# Altium integrated library Analog Devices Data Converters Digital-to-Analog Converters.IntLib: 2231 symbols (part 75 of 181)
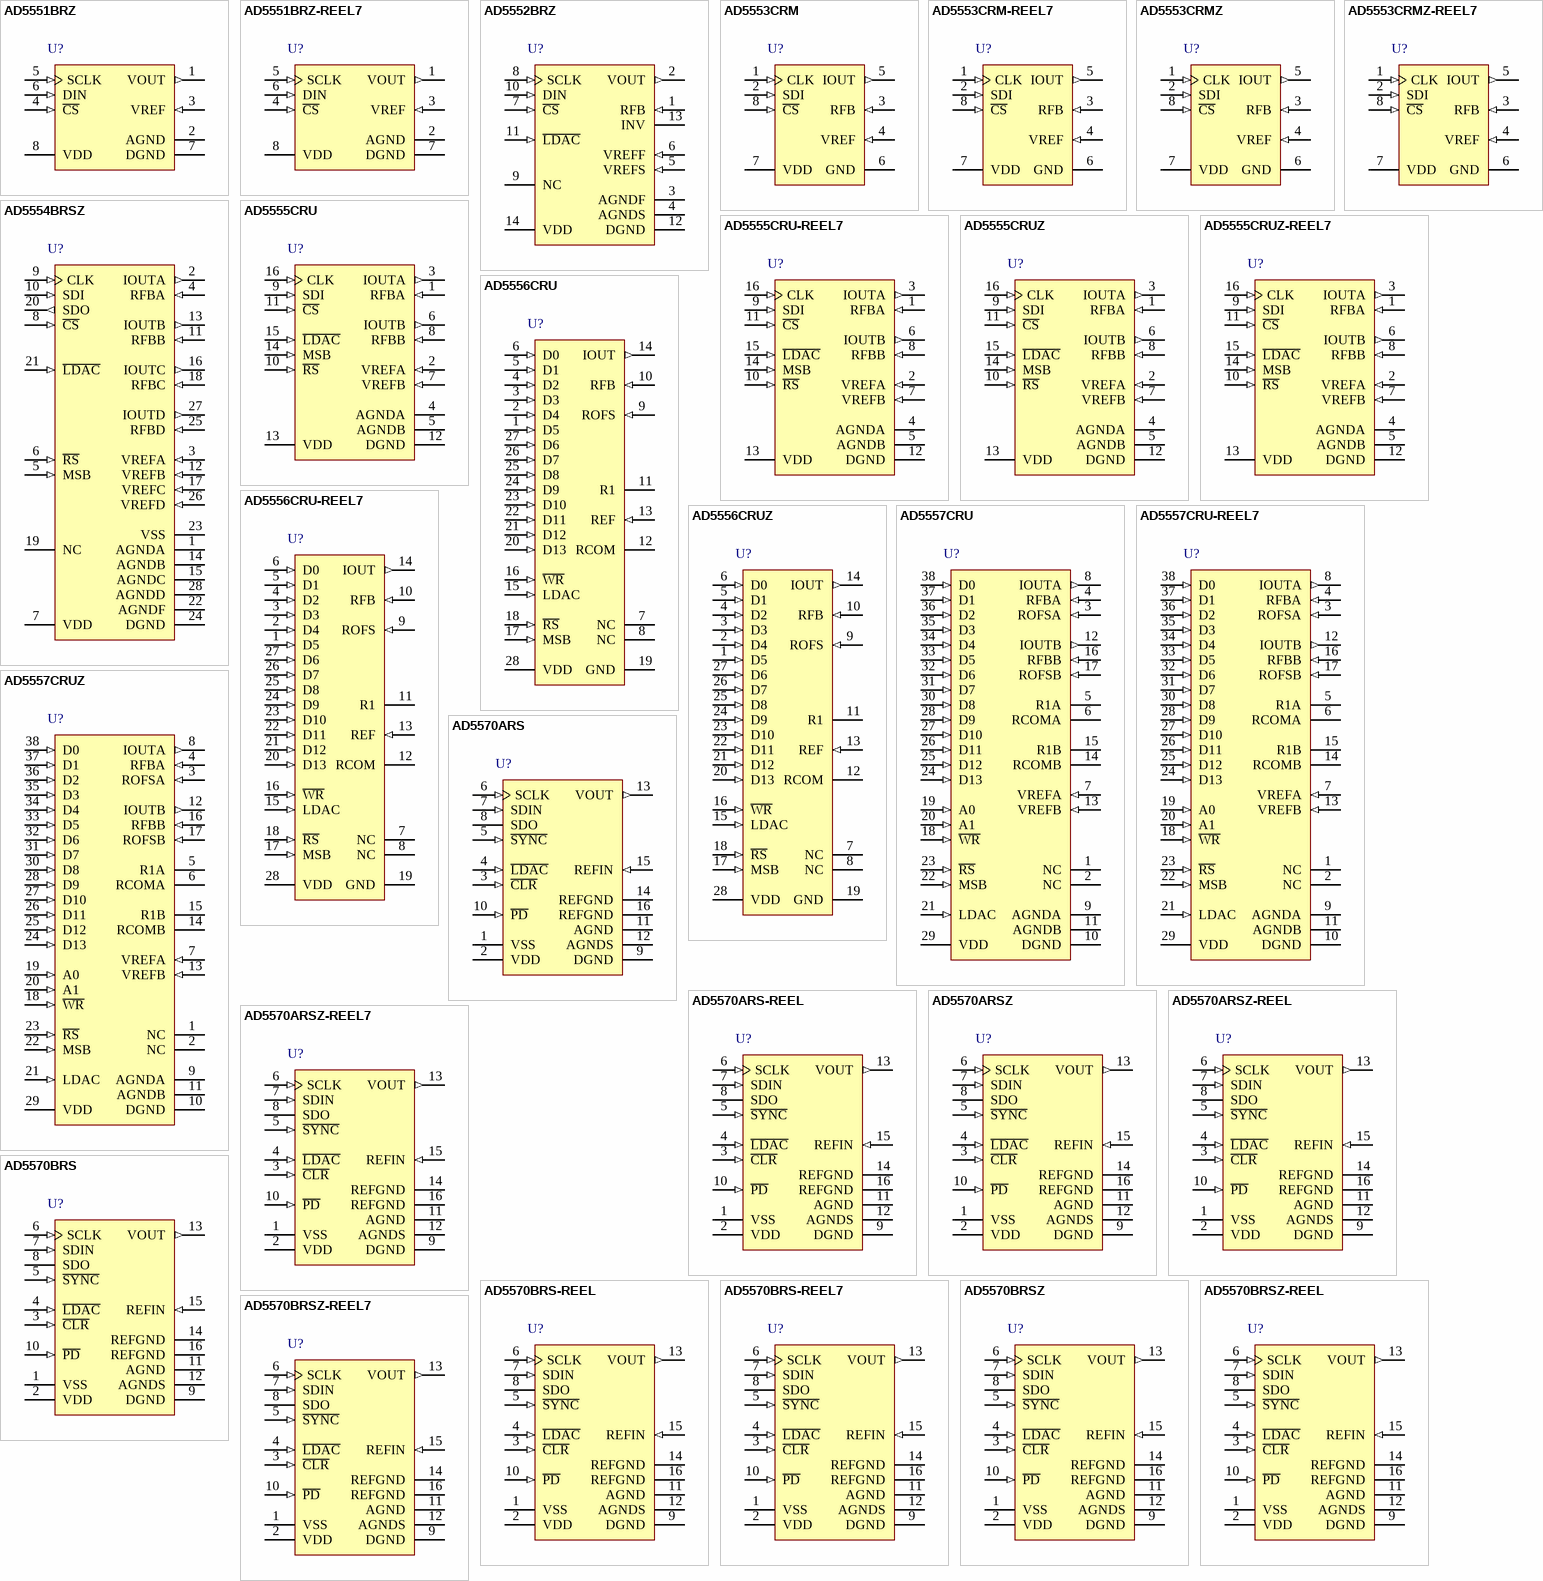
[diagram p188: symbols AD5551BRZ to AD5570BRSZ-REEL7]

## AD5557CRU-REEL7
designator U?
Dual 14-Bit Multiplying Dual Current Output Digital-to-Analog Converter with Parallel Interface, -40 to +125 degC, RU-38, Reel; Generic Part Number: AD5557; Manufacturer: Analog Devices; PartNumber: AD5557CRU-REEL7; # DAC Outputs: 2; Max V+: 5.5V; Op Pwr Diss: 55µW; Resolution (Bits): 14; Settling Time: 500ns; Single Supply: Yes; DatasheetVersion: Rev.C; PackageVersion: Mar-2003; PackageReference: RU-38; PackageDescription: 38-Lead Thin Shrink Small Outline Package [TSSOP]; Supplier 1: Digi-Key; Supplier Part Number 1: AD5557CRU-REEL7-ND; Supplier 2: Mouser; Supplier Part Number 2: 584-AD5557CRU-R7; Packing: Reel; RoHS: N; Mounting Technology: Surface Mount; Code_JEDEC: MS-153BD-1; ComponentLink1Description: Manufacturer URL; ComponentLink1URL: http://www.analog.com/en/index.html; ComponentLink2Description: Datasheet; ComponentLink2URL: http://www.analog.com/static/imported-files/data_sheets/AD5547_5557.pdf; ComponentLink3Description: Package Specification; ComponentLink3URL: http://www.analog.com/static/imported-files/packages/36817415413609854197792024125RU38.pdf; ComponentLink4Description: Product URL; ComponentLink4URL: http://www.analog.com/en/digital-to-analog-converters/da-converters/ad5557/products/product.html; ComponentLink5Description: Reference Design URL; ComponentLink5URL: http://www.analog.com/en/digital-to-analog-converters/da-converters/ad5557/products/product.html#prod_cross_sell
footprint RU-38_N (TSSOP, 38-Leads, Body 9.7x4.4mm, Pitch 0.5mm, IPC Medium Density)
footprint RU-38_L (TSSOP, 38-Leads, Body 9.7x4.4mm, Pitch 0.5mm, IPC High Density)
footprint RU-38_M (TSSOP, 38-Leads, Body 9.7x4.4mm, Pitch 0.5mm, IPC Low Density)
pins: 1 NC "No Connection. Do not connect anything other than the dummy pads to these pins.", 2 NC "No Connection. Do not connect anything other than the dummy pads to these pins.", 3 ROFSA (in) "Bipolar Offset Resistor A. Accepts up to +/-18 V. In 2-quadrant mode, ROFSA ties to RFBA. In 4-quadrant mode, ROFSA ties to R1A and the external reference.", 4 RFBA (in) "Internal Matching Feedback Resistor A. Connects to the external op amp for I-to-V conversion.", 5 R1A "4-Quandrant Resistor. In 2-quadrant mode, R1A shorts to the VREFA pin. In 4-quadrant mode, R1A ties to ROFSA. Do  not connect when operating in unipolar mode.", 6 RCOMA "Center Tap Point of the Two 4-Quadrant Resistors, R1A and R2A. In 4-quadrant mode, RCOMA ties to the inverting  node of the reference amplifier. In 2-quadrant mode, RCOMA shorts to the VREFA pin. Do not connect if operating  (See Datasheet)", 7 VREFA (in) "DAC A Reference Input in 2-Quadrant Mode, R2 Terminal in 4-Quadrant Mode. In 2-quadrant mode, VREFA is the  reference input with constant input resistance vs. code. In 4-quadrant mode, VREFA is driven by the external  (See Datasheet)", 8 IOUTA (out) "DAC A Current Output. Connects to the inverting terminal of external precision I-to-V op amp for voltage  output.", 9 AGNDA (power) "DAC A Analog Ground.", 10 DGND (power) "Digital Ground.", 11 AGNDB (power) "DAC B Analog Ground.", 12 IOUTB (out) "DAC B Current Output. Connects to inverting terminal of external precision I-to-V op amp for voltage output.", 13 VREFB (in) "DAC B Reference Input Pin. Establishes DAC full-scale voltage. Constant input resistance vs. code. If configured  with an external op amp for 4-quadrant multiplying, VREFB becomes -VREF.", 14 RCOMB "Center Tap Point of the Two 4-Quadrant Resistors, R1B and R2B. In 4-quadrant mode, RCOMB ties to the inverting  node of the reference amplifier. In 2-quadrant mode, RCOMB shorts to the VREFB pin. Do not connect if operating  (See Datasheet)", 15 R1B "4-Quandrant Resistor. In 2-quadrant mode, R1B shorts to the VREFB pin. In 4-quadrant mode, R1B ties to ROFSB. Do  not connect if operating in unipolar mode.", 16 RFBB (in) "Internal Matching Feedback Resistor B. Connects to external op amp for I-to-V conversion.", 17 ROFSB (in) "Bipolar Offset Resistor B. Accepts up to +/-18 V. In 2-quadrant mode, ROFSB ties to RFBB. In 4-quadrant mode, ROFSB ties to R1B and an external reference.", 18 ~{WR} (in) "Write Control Digital Input In, Active Low. Transfers shift register data to the DAC register on the rising edge.  Signal level must be =< VDD + 0.3 V.", 19 A0 (in) "Address Pin 0. Signal level must be =< VDD  + 0.3 V", 20 A1 (in) "Address Pin 1. Signal level must be =< VDD  + 0.3 V.", 21 LDAC (in) "Digital Input Load DAC Control. Signal level must be =< VDD + 0.3 V", 22 MSB (in) "Power-On Reset State. MSB = 0 corresponds to zero-scale reset; MSB = 1 corresponds to midscale reset. The  signal level must be =< VDD + 0.3 V.", 23 ~{RS} (in) "Active low resets both input and DAC registers. Resets to zero-scale if MSB = 0 and resets to midscale if MSB = 1.  Signal level must be =< VDD + 0.3 V", 24 D13 (in) "Digital Input Data Bit D13. Signal level must be =< VDD + 0.3 V.", 25 D12 (in) "Digital Input Data Bit D12. Signal level must be =< VDD + 0.3 V.", 26 D11 (in) "Digital Input Data Bit D11. Signal level must be =< VDD + 0.3 V.", 27 D10 (in) "Digital Input Data Bit D10. Signal level must be =< VDD + 0.3 V.", 28 D9 (in) "Digital Input Data Bit D9. Signal level must be =< VDD + 0.3 V.", 29 VDD (power) "Positive Power Supply Input. The specified range of operation is 2.7 V to 5.5 V.", 30 D8 (in) "Digital Input Data Bit D8. Signal level must be =< VDD + 0.3 V.", 31 D7 (in) "Digital Input Data Bit D7. Signal level must be =< VDD + 0.3 V.", 32 D6 (in) "Digital Input Data Bit D6. Signal level must be =< VDD + 0.3 V.", 33 D5 (in) "Digital Input Data Bit D5. Signal level must be =< VDD + 0.3 V.", 34 D4 (in) "Digital Input Data Bit D4. Signal level must be =< VDD + 0.3 V.", 35 D3 (in) "Digital Input Data Bit D3. Signal level must be =< VDD + 0.3 V.", 36 D2 (in) "Digital Input Data Bit D2. Signal level must be =< VDD + 0.3 V.", 37 D1 (in) "Digital Input Data Bit D1. Signal level must be =< VDD + 0.3 V.", 38 D0 (in) "Digital Input Data Bit D0. Signal level must be =< VDD + 0.3 V."

## AD5557CRUZ
designator U?
Dual 14-Bit Multiplying Dual Current Output Digital-to-Analog Converter with Parallel Interface, -40 to +125 degC, RU-38, Pb-Free, Tube; Generic Part Number: AD5557; Manufacturer: Analog Devices; PartNumber: AD5557CRUZ; # DAC Outputs: 2; Max V+: 5.5V; Op Pwr Diss: 55µW; Resolution (Bits): 14; Settling Time: 500ns; Single Supply: Yes; DatasheetVersion: Rev.C; PackageVersion: Mar-2003; PackageReference: RU-38; PackageDescription: 38-Lead Thin Shrink Small Outline Package [TSSOP]; Supplier 1: Digi-Key; Supplier Part Number 1: AD5557CRUZ-ND; Supplier 2: Newark; Supplier Part Number 2: 11P2921; Supplier 3: Mouser; Supplier Part Number 3: 584-AD5557CRUZ; Packing: Tube; RoHS: Y; Mounting Technology: Surface Mount; Code_JEDEC: MS-153BD-1; ComponentLink1Description: Manufacturer URL; ComponentLink1URL: http://www.analog.com/en/index.html; ComponentLink2Description: Datasheet; ComponentLink2URL: http://www.analog.com/static/imported-files/data_sheets/AD5547_5557.pdf; ComponentLink3Description: Package Specification; ComponentLink3URL: http://www.analog.com/static/imported-files/packages/36817415413609854197792024125RU38.pdf; ComponentLink4Description: Product URL; ComponentLink4URL: http://www.analog.com/en/digital-to-analog-converters/da-converters/ad5557/products/product.html; ComponentLink5Description: Reference Design URL; ComponentLink5URL: http://www.analog.com/en/digital-to-analog-converters/da-converters/ad5557/products/product.html#prod_cross_sell
footprint RU-38_N (TSSOP, 38-Leads, Body 9.7x4.4mm, Pitch 0.5mm, IPC Medium Density)
footprint RU-38_L (TSSOP, 38-Leads, Body 9.7x4.4mm, Pitch 0.5mm, IPC High Density)
footprint RU-38_M (TSSOP, 38-Leads, Body 9.7x4.4mm, Pitch 0.5mm, IPC Low Density)
pins: 1 NC "No Connection. Do not connect anything other than the dummy pads to these pins.", 2 NC "No Connection. Do not connect anything other than the dummy pads to these pins.", 3 ROFSA (in) "Bipolar Offset Resistor A. Accepts up to +/-18 V. In 2-quadrant mode, ROFSA ties to RFBA. In 4-quadrant mode, ROFSA ties to R1A and the external reference.", 4 RFBA (in) "Internal Matching Feedback Resistor A. Connects to the external op amp for I-to-V conversion.", 5 R1A "4-Quandrant Resistor. In 2-quadrant mode, R1A shorts to the VREFA pin. In 4-quadrant mode, R1A ties to ROFSA. Do  not connect when operating in unipolar mode.", 6 RCOMA "Center Tap Point of the Two 4-Quadrant Resistors, R1A and R2A. In 4-quadrant mode, RCOMA ties to the inverting  node of the reference amplifier. In 2-quadrant mode, RCOMA shorts to the VREFA pin. Do not connect if operating  (See Datasheet)", 7 VREFA (in) "DAC A Reference Input in 2-Quadrant Mode, R2 Terminal in 4-Quadrant Mode. In 2-quadrant mode, VREFA is the  reference input with constant input resistance vs. code. In 4-quadrant mode, VREFA is driven by the external  (See Datasheet)", 8 IOUTA (out) "DAC A Current Output. Connects to the inverting terminal of external precision I-to-V op amp for voltage  output.", 9 AGNDA (power) "DAC A Analog Ground.", 10 DGND (power) "Digital Ground.", 11 AGNDB (power) "DAC B Analog Ground.", 12 IOUTB (out) "DAC B Current Output. Connects to inverting terminal of external precision I-to-V op amp for voltage output.", 13 VREFB (in) "DAC B Reference Input Pin. Establishes DAC full-scale voltage. Constant input resistance vs. code. If configured  with an external op amp for 4-quadrant multiplying, VREFB becomes -VREF.", 14 RCOMB "Center Tap Point of the Two 4-Quadrant Resistors, R1B and R2B. In 4-quadrant mode, RCOMB ties to the inverting  node of the reference amplifier. In 2-quadrant mode, RCOMB shorts to the VREFB pin. Do not connect if operating  (See Datasheet)", 15 R1B "4-Quandrant Resistor. In 2-quadrant mode, R1B shorts to the VREFB pin. In 4-quadrant mode, R1B ties to ROFSB. Do  not connect if operating in unipolar mode.", 16 RFBB (in) "Internal Matching Feedback Resistor B. Connects to external op amp for I-to-V conversion.", 17 ROFSB (in) "Bipolar Offset Resistor B. Accepts up to +/-18 V. In 2-quadrant mode, ROFSB ties to RFBB. In 4-quadrant mode, ROFSB ties to R1B and an external reference.", 18 ~{WR} (in) "Write Control Digital Input In, Active Low. Transfers shift register data to the DAC register on the rising edge.  Signal level must be =< VDD + 0.3 V.", 19 A0 (in) "Address Pin 0. Signal level must be =< VDD  + 0.3 V", 20 A1 (in) "Address Pin 1. Signal level must be =< VDD  + 0.3 V.", 21 LDAC (in) "Digital Input Load DAC Control. Signal level must be =< VDD + 0.3 V", 22 MSB (in) "Power-On Reset State. MSB = 0 corresponds to zero-scale reset; MSB = 1 corresponds to midscale reset. The  signal level must be =< VDD + 0.3 V.", 23 ~{RS} (in) "Active low resets both input and DAC registers. Resets to zero-scale if MSB = 0 and resets to midscale if MSB = 1.  Signal level must be =< VDD + 0.3 V", 24 D13 (in) "Digital Input Data Bit D13. Signal level must be =< VDD + 0.3 V.", 25 D12 (in) "Digital Input Data Bit D12. Signal level must be =< VDD + 0.3 V.", 26 D11 (in) "Digital Input Data Bit D11. Signal level must be =< VDD + 0.3 V.", 27 D10 (in) "Digital Input Data Bit D10. Signal level must be =< VDD + 0.3 V.", 28 D9 (in) "Digital Input Data Bit D9. Signal level must be =< VDD + 0.3 V.", 29 VDD (power) "Positive Power Supply Input. The specified range of operation is 2.7 V to 5.5 V.", 30 D8 (in) "Digital Input Data Bit D8. Signal level must be =< VDD + 0.3 V.", 31 D7 (in) "Digital Input Data Bit D7. Signal level must be =< VDD + 0.3 V.", 32 D6 (in) "Digital Input Data Bit D6. Signal level must be =< VDD + 0.3 V.", 33 D5 (in) "Digital Input Data Bit D5. Signal level must be =< VDD + 0.3 V.", 34 D4 (in) "Digital Input Data Bit D4. Signal level must be =< VDD + 0.3 V.", 35 D3 (in) "Digital Input Data Bit D3. Signal level must be =< VDD + 0.3 V.", 36 D2 (in) "Digital Input Data Bit D2. Signal level must be =< VDD + 0.3 V.", 37 D1 (in) "Digital Input Data Bit D1. Signal level must be =< VDD + 0.3 V.", 38 D0 (in) "Digital Input Data Bit D0. Signal level must be =< VDD + 0.3 V."

## AD5570ARS
designator U?
Single 16-Bit True Accuracy Digital-to-Analog Converter with Serial Interface, + / -12 V , + / -15 V, -40 to +85 degC, RS-16, Tube; Generic Part Number: AD5570; Manufacturer: Analog Devices; PartNumber: AD5570ARS; # DAC Outputs: 1; Max V+: 16.5V; Op Pwr Diss: 150mW; Resolution (Bits): 16; Settling Time: 12µs; Single Supply: No; DatasheetVersion: Rev.C; PackageVersion: Mar-2005; PackageReference: RS-16; PackageDescription: 16-Lead Shrink Small Outline Package [SSOP]; Supplier 1: Digi-Key; Supplier Part Number 1: AD5570ARS-ND; Supplier 2: Mouser; Supplier Part Number 2: 584-AD5570ARS; Packing: Tube; RoHS: N; Mounting Technology: Surface Mount; Code_JEDEC: MO-150-AC; ComponentLink1Description: Manufacturer URL; ComponentLink1URL: http://www.analog.com/en/index.html; ComponentLink2Description: Datasheet; ComponentLink2URL: http://www.analog.com/static/imported-files/data_sheets/AD5570.pdf; ComponentLink3Description: Package Specification; ComponentLink3URL: http://www.analog.com/static/imported-files/packages/31572257652246RS_16.pdf; ComponentLink4Description: Product URL; ComponentLink4URL: http://www.analog.com/en/digital-to-analog-converters/da-converters/ad5570/products/product.html
footprint RS-16_N (SOP, 16-Leads, Body 6.2x5.3mm, Pitch 0.65mm, IPC Medium Density)
footprint RS-16_L (SOP, 16-Leads, Body 6.2x5.3mm, Pitch 0.65mm, IPC High Density)
footprint RS-16_M (SOP, 16-Leads, Body 6.2x5.3mm, Pitch 0.65mm, IPC Low Density)
pins: 1 VSS (power) "Negative Analog Supply Voltage. -12 V +/- 5% to -15 V +/- 10% for specified performance", 2 VDD (power) "Positive Analog Supply Voltage. 12 V +/- 5% to 15 V +/- 10% for specified performance", 3 ~{CLR} (in) "Level Sensitive, Active Low Input. A falling edge of C\L\R\ resets VOUT to AGND. The contents of the registers are untouched.", 4 ~{LDAC} (in) "Active Low Control Input. Transfers the contents of the input register to the DAC register. L\D\A\C\ can be tied permanently low, enabling the outputs to be updated on the rising edge of S\Y\N\C\.", 5 ~{SYNC} (in) "Active Low Control Input. This is the frame synchronization signal for the data. When S\Y\N\C\ goes low, it powers on the SCLK and SDIN buffers and enables the input shift register. Data is transferred in on the falling (See Datasheet)", 6 SCLK (in) "Serial Clock Input. Data is clocked into the input register on the falling edge of the serial clock input. Data can be transferred at rates of up to 8 MHz.", 7 SDIN (in) "Serial Data Input. Data is clocked into the 16-bit register on the falling edge of the serial clock input.", 8 SDO (oc) "Serial Data Output. Can be used for daisy-chaining a number of devices together or for reading back the data in the shift register for diagnostic purposes. This is an open-drain output; it must be pulled to logic high with (See Datasheet)", 9 DGND (power) "Digital Ground. Ground reference for all digital circuitry.", 10 ~{PD} (in) "Active Low Control Input. Allows the DAC to be put into a power-down state.", 11 AGND (power) "Analog Ground. Ground reference for all analog circuitry.", 12 AGNDS (power) "Analog Ground Sense. This is normally tied to AGND.", 13 VOUT (out) "Analog Output Voltage.", 14 REFGND (power) "Reference Ground. Tie this pin to 0 V.", 15 REFIN (in) "Voltage Reference Input. This is internally buffered before being applied to the DAC. For bipolar +/-10 V output range, REFIN is 5 V.", 16 REFGND (power) "Reference Ground. Tie this pin to 0 V."

## AD5570ARS-REEL
designator U?
Single 16-Bit True Accuracy Digital-to-Analog Converter with Serial Interface, + / -12 V , + / -15 V, -40 to +85 degC, RS-16, Reel; Generic Part Number: AD5570; Manufacturer: Analog Devices; PartNumber: AD5570ARS-REEL; # DAC Outputs: 1; Max V+: 16.5V; Op Pwr Diss: 150mW; Resolution (Bits): 16; Settling Time: 12µs; Single Supply: No; DatasheetVersion: Rev.C; PackageVersion: Mar-2005; PackageReference: RS-16; PackageDescription: 16-Lead Shrink Small Outline Package [SSOP]; Supplier 1: Digi-Key; Supplier Part Number 1: AD5570ARS-REEL-ND; Supplier 2: Mouser; Supplier Part Number 2: 584-AD5570ARS-R; Packing: Reel; RoHS: N; Mounting Technology: Surface Mount; Code_JEDEC: MO-150-AC; ComponentLink1Description: Manufacturer URL; ComponentLink1URL: http://www.analog.com/en/index.html; ComponentLink2Description: Datasheet; ComponentLink2URL: http://www.analog.com/static/imported-files/data_sheets/AD5570.pdf; ComponentLink3Description: Package Specification; ComponentLink3URL: http://www.analog.com/static/imported-files/packages/31572257652246RS_16.pdf; ComponentLink4Description: Product URL; ComponentLink4URL: http://www.analog.com/en/digital-to-analog-converters/da-converters/ad5570/products/product.html
footprint RS-16_N (SOP, 16-Leads, Body 6.2x5.3mm, Pitch 0.65mm, IPC Medium Density)
footprint RS-16_L (SOP, 16-Leads, Body 6.2x5.3mm, Pitch 0.65mm, IPC High Density)
footprint RS-16_M (SOP, 16-Leads, Body 6.2x5.3mm, Pitch 0.65mm, IPC Low Density)
pins: 1 VSS (power) "Negative Analog Supply Voltage. -12 V +/- 5% to -15 V +/- 10% for specified performance", 2 VDD (power) "Positive Analog Supply Voltage. 12 V +/- 5% to 15 V +/- 10% for specified performance", 3 ~{CLR} (in) "Level Sensitive, Active Low Input. A falling edge of C\L\R\ resets VOUT to AGND. The contents of the registers are untouched.", 4 ~{LDAC} (in) "Active Low Control Input. Transfers the contents of the input register to the DAC register. L\D\A\C\ can be tied permanently low, enabling the outputs to be updated on the rising edge of S\Y\N\C\.", 5 ~{SYNC} (in) "Active Low Control Input. This is the frame synchronization signal for the data. When S\Y\N\C\ goes low, it powers on the SCLK and SDIN buffers and enables the input shift register. Data is transferred in on the falling (See Datasheet)", 6 SCLK (in) "Serial Clock Input. Data is clocked into the input register on the falling edge of the serial clock input. Data can be transferred at rates of up to 8 MHz.", 7 SDIN (in) "Serial Data Input. Data is clocked into the 16-bit register on the falling edge of the serial clock input.", 8 SDO (oc) "Serial Data Output. Can be used for daisy-chaining a number of devices together or for reading back the data in the shift register for diagnostic purposes. This is an open-drain output; it must be pulled to logic high with (See Datasheet)", 9 DGND (power) "Digital Ground. Ground reference for all digital circuitry.", 10 ~{PD} (in) "Active Low Control Input. Allows the DAC to be put into a power-down state.", 11 AGND (power) "Analog Ground. Ground reference for all analog circuitry.", 12 AGNDS (power) "Analog Ground Sense. This is normally tied to AGND.", 13 VOUT (out) "Analog Output Voltage.", 14 REFGND (power) "Reference Ground. Tie this pin to 0 V.", 15 REFIN (in) "Voltage Reference Input. This is internally buffered before being applied to the DAC. For bipolar +/-10 V output range, REFIN is 5 V.", 16 REFGND (power) "Reference Ground. Tie this pin to 0 V."

## AD5570ARSZ
designator U?
Single 16-Bit True Accuracy Digital-to-Analog Converter with Serial Interface, + / -12 V , + / -15 V, -40 to +85 degC, RS-16, Pb-Free, Tube; Generic Part Number: AD5570; Manufacturer: Analog Devices; PartNumber: AD5570ARSZ; # DAC Outputs: 1; Max V+: 16.5V; Op Pwr Diss: 150mW; Resolution (Bits): 16; Settling Time: 12µs; Single Supply: No; DatasheetVersion: Rev.C; PackageVersion: Mar-2005; PackageReference: RS-16; PackageDescription: 16-Lead Shrink Small Outline Package [SSOP]; Supplier 1: Digi-Key; Supplier Part Number 1: AD5570ARSZ-ND; Supplier 2: Farnell; Supplier Part Number 2: 2313472; Supplier 3: Newark; Supplier Part Number 3: 59K4235; Supplier 4: Mouser; Supplier Part Number 4: 584-AD5570ARSZ; Packing: Tube; RoHS: Y; Mounting Technology: Surface Mount; Code_JEDEC: MO-150-AC; ComponentLink1Description: Manufacturer URL; ComponentLink1URL: http://www.analog.com/en/index.html; ComponentLink2Description: Datasheet; ComponentLink2URL: http://www.analog.com/static/imported-files/data_sheets/AD5570.pdf; ComponentLink3Description: Package Specification; ComponentLink3URL: http://www.analog.com/static/imported-files/packages/31572257652246RS_16.pdf; ComponentLink4Description: Product URL; ComponentLink4URL: http://www.analog.com/en/digital-to-analog-converters/da-converters/ad5570/products/product.html
footprint RS-16_N (SOP, 16-Leads, Body 6.2x5.3mm, Pitch 0.65mm, IPC Medium Density)
footprint RS-16_L (SOP, 16-Leads, Body 6.2x5.3mm, Pitch 0.65mm, IPC High Density)
footprint RS-16_M (SOP, 16-Leads, Body 6.2x5.3mm, Pitch 0.65mm, IPC Low Density)
pins: 1 VSS (power) "Negative Analog Supply Voltage. -12 V +/- 5% to -15 V +/- 10% for specified performance", 2 VDD (power) "Positive Analog Supply Voltage. 12 V +/- 5% to 15 V +/- 10% for specified performance", 3 ~{CLR} (in) "Level Sensitive, Active Low Input. A falling edge of C\L\R\ resets VOUT to AGND. The contents of the registers are untouched.", 4 ~{LDAC} (in) "Active Low Control Input. Transfers the contents of the input register to the DAC register. L\D\A\C\ can be tied permanently low, enabling the outputs to be updated on the rising edge of S\Y\N\C\.", 5 ~{SYNC} (in) "Active Low Control Input. This is the frame synchronization signal for the data. When S\Y\N\C\ goes low, it powers on the SCLK and SDIN buffers and enables the input shift register. Data is transferred in on the falling (See Datasheet)", 6 SCLK (in) "Serial Clock Input. Data is clocked into the input register on the falling edge of the serial clock input. Data can be transferred at rates of up to 8 MHz.", 7 SDIN (in) "Serial Data Input. Data is clocked into the 16-bit register on the falling edge of the serial clock input.", 8 SDO (oc) "Serial Data Output. Can be used for daisy-chaining a number of devices together or for reading back the data in the shift register for diagnostic purposes. This is an open-drain output; it must be pulled to logic high with (See Datasheet)", 9 DGND (power) "Digital Ground. Ground reference for all digital circuitry.", 10 ~{PD} (in) "Active Low Control Input. Allows the DAC to be put into a power-down state.", 11 AGND (power) "Analog Ground. Ground reference for all analog circuitry.", 12 AGNDS (power) "Analog Ground Sense. This is normally tied to AGND.", 13 VOUT (out) "Analog Output Voltage.", 14 REFGND (power) "Reference Ground. Tie this pin to 0 V.", 15 REFIN (in) "Voltage Reference Input. This is internally buffered before being applied to the DAC. For bipolar +/-10 V output range, REFIN is 5 V.", 16 REFGND (power) "Reference Ground. Tie this pin to 0 V."

## AD5570ARSZ-REEL
designator U?
Single 16-Bit True Accuracy Digital-to-Analog Converter with Serial Interface, + / -12 V , + / -15 V, -40 to +85 degC, RS-16, Pb-Free, Reel; Generic Part Number: AD5570; Manufacturer: Analog Devices; PartNumber: AD5570ARSZ-REEL; # DAC Outputs: 1; Max V+: 16.5V; Op Pwr Diss: 150mW; Resolution (Bits): 16; Settling Time: 12µs; Single Supply: No; DatasheetVersion: Rev.C; PackageVersion: Mar-2005; PackageReference: RS-16; PackageDescription: 16-Lead Shrink Small Outline Package [SSOP]; Supplier 1: Digi-Key; Supplier Part Number 1: AD5570ARSZ-REEL-ND; Supplier 2: Mouser; Supplier Part Number 2: 584-AD5570ARSZ-R; Packing: Reel; RoHS: Y; Mounting Technology: Surface Mount; Code_JEDEC: MO-150-AC; ComponentLink1Description: Manufacturer URL; ComponentLink1URL: http://www.analog.com/en/index.html; ComponentLink2Description: Datasheet; ComponentLink2URL: http://www.analog.com/static/imported-files/data_sheets/AD5570.pdf; ComponentLink3Description: Package Specification; ComponentLink3URL: http://www.analog.com/static/imported-files/packages/31572257652246RS_16.pdf; ComponentLink4Description: Product URL; ComponentLink4URL: http://www.analog.com/en/digital-to-analog-converters/da-converters/ad5570/products/product.html
footprint RS-16_N (SOP, 16-Leads, Body 6.2x5.3mm, Pitch 0.65mm, IPC Medium Density)
footprint RS-16_L (SOP, 16-Leads, Body 6.2x5.3mm, Pitch 0.65mm, IPC High Density)
footprint RS-16_M (SOP, 16-Leads, Body 6.2x5.3mm, Pitch 0.65mm, IPC Low Density)
pins: 1 VSS (power) "Negative Analog Supply Voltage. -12 V +/- 5% to -15 V +/- 10% for specified performance", 2 VDD (power) "Positive Analog Supply Voltage. 12 V +/- 5% to 15 V +/- 10% for specified performance", 3 ~{CLR} (in) "Level Sensitive, Active Low Input. A falling edge of C\L\R\ resets VOUT to AGND. The contents of the registers are untouched.", 4 ~{LDAC} (in) "Active Low Control Input. Transfers the contents of the input register to the DAC register. L\D\A\C\ can be tied permanently low, enabling the outputs to be updated on the rising edge of S\Y\N\C\.", 5 ~{SYNC} (in) "Active Low Control Input. This is the frame synchronization signal for the data. When S\Y\N\C\ goes low, it powers on the SCLK and SDIN buffers and enables the input shift register. Data is transferred in on the falling (See Datasheet)", 6 SCLK (in) "Serial Clock Input. Data is clocked into the input register on the falling edge of the serial clock input. Data can be transferred at rates of up to 8 MHz.", 7 SDIN (in) "Serial Data Input. Data is clocked into the 16-bit register on the falling edge of the serial clock input.", 8 SDO (oc) "Serial Data Output. Can be used for daisy-chaining a number of devices together or for reading back the data in the shift register for diagnostic purposes. This is an open-drain output; it must be pulled to logic high with (See Datasheet)", 9 DGND (power) "Digital Ground. Ground reference for all digital circuitry.", 10 ~{PD} (in) "Active Low Control Input. Allows the DAC to be put into a power-down state.", 11 AGND (power) "Analog Ground. Ground reference for all analog circuitry.", 12 AGNDS (power) "Analog Ground Sense. This is normally tied to AGND.", 13 VOUT (out) "Analog Output Voltage.", 14 REFGND (power) "Reference Ground. Tie this pin to 0 V.", 15 REFIN (in) "Voltage Reference Input. This is internally buffered before being applied to the DAC. For bipolar +/-10 V output range, REFIN is 5 V.", 16 REFGND (power) "Reference Ground. Tie this pin to 0 V."

## AD5570ARSZ-REEL7
designator U?
Single 16-Bit True Accuracy Digital-to-Analog Converter with Serial Interface, + / -12 V , + / -15 V, -40 to +85 degC, RS-16, Pb-Free, Reel; Generic Part Number: AD5570; Manufacturer: Analog Devices; PartNumber: AD5570ARSZ-REEL7; # DAC Outputs: 1; Max V+: 16.5V; Op Pwr Diss: 150mW; Resolution (Bits): 16; Settling Time: 12µs; Single Supply: No; DatasheetVersion: Rev.C; PackageVersion: Mar-2005; PackageReference: RS-16; PackageDescription: 16-Lead Shrink Small Outline Package [SSOP]; Supplier 1: Digi-Key; Supplier Part Number 1: AD5570ARSZ-REEL7-ND; Supplier 2: Newark; Supplier Part Number 2: 59K4237; Supplier 3: Mouser; Supplier Part Number 3: 584-AD5570ARSZ-R7; Packing: Reel; RoHS: Y; Mounting Technology: Surface Mount; Code_JEDEC: MO-150-AC; ComponentLink1Description: Manufacturer URL; ComponentLink1URL: http://www.analog.com/en/index.html; ComponentLink2Description: Datasheet; ComponentLink2URL: http://www.analog.com/static/imported-files/data_sheets/AD5570.pdf; ComponentLink3Description: Package Specification; ComponentLink3URL: http://www.analog.com/static/imported-files/packages/31572257652246RS_16.pdf; ComponentLink4Description: Product URL; ComponentLink4URL: http://www.analog.com/en/digital-to-analog-converters/da-converters/ad5570/products/product.html
footprint RS-16_N (SOP, 16-Leads, Body 6.2x5.3mm, Pitch 0.65mm, IPC Medium Density)
footprint RS-16_L (SOP, 16-Leads, Body 6.2x5.3mm, Pitch 0.65mm, IPC High Density)
footprint RS-16_M (SOP, 16-Leads, Body 6.2x5.3mm, Pitch 0.65mm, IPC Low Density)
pins: 1 VSS (power) "Negative Analog Supply Voltage. -12 V +/- 5% to -15 V +/- 10% for specified performance", 2 VDD (power) "Positive Analog Supply Voltage. 12 V +/- 5% to 15 V +/- 10% for specified performance", 3 ~{CLR} (in) "Level Sensitive, Active Low Input. A falling edge of C\L\R\ resets VOUT to AGND. The contents of the registers are untouched.", 4 ~{LDAC} (in) "Active Low Control Input. Transfers the contents of the input register to the DAC register. L\D\A\C\ can be tied permanently low, enabling the outputs to be updated on the rising edge of S\Y\N\C\.", 5 ~{SYNC} (in) "Active Low Control Input. This is the frame synchronization signal for the data. When S\Y\N\C\ goes low, it powers on the SCLK and SDIN buffers and enables the input shift register. Data is transferred in on the falling (See Datasheet)", 6 SCLK (in) "Serial Clock Input. Data is clocked into the input register on the falling edge of the serial clock input. Data can be transferred at rates of up to 8 MHz.", 7 SDIN (in) "Serial Data Input. Data is clocked into the 16-bit register on the falling edge of the serial clock input.", 8 SDO (oc) "Serial Data Output. Can be used for daisy-chaining a number of devices together or for reading back the data in the shift register for diagnostic purposes. This is an open-drain output; it must be pulled to logic high with (See Datasheet)", 9 DGND (power) "Digital Ground. Ground reference for all digital circuitry.", 10 ~{PD} (in) "Active Low Control Input. Allows the DAC to be put into a power-down state.", 11 AGND (power) "Analog Ground. Ground reference for all analog circuitry.", 12 AGNDS (power) "Analog Ground Sense. This is normally tied to AGND.", 13 VOUT (out) "Analog Output Voltage.", 14 REFGND (power) "Reference Ground. Tie this pin to 0 V.", 15 REFIN (in) "Voltage Reference Input. This is internally buffered before being applied to the DAC. For bipolar +/-10 V output range, REFIN is 5 V.", 16 REFGND (power) "Reference Ground. Tie this pin to 0 V."

## AD5570BRS
designator U?
Single 16-Bit True Accuracy Digital-to-Analog Converter with Serial Interface, + / -12 V , + / -15 V, -40 to +85 degC, RS-16, Tube; Generic Part Number: AD5570; Manufacturer: Analog Devices; PartNumber: AD5570BRS; # DAC Outputs: 1; Max V+: 16.5V; Op Pwr Diss: 150mW; Resolution (Bits): 16; Settling Time: 12µs; Single Supply: No; DatasheetVersion: Rev.C; PackageVersion: Mar-2005; PackageReference: RS-16; PackageDescription: 16-Lead Shrink Small Outline Package [SSOP]; Supplier 1: Digi-Key; Supplier Part Number 1: AD5570BRS-ND; Supplier 2: Mouser; Supplier Part Number 2: 584-AD5570BRS; Packing: Tube; RoHS: N; Mounting Technology: Surface Mount; Code_JEDEC: MO-150-AC; ComponentLink1Description: Manufacturer URL; ComponentLink1URL: http://www.analog.com/en/index.html; ComponentLink2Description: Datasheet; ComponentLink2URL: http://www.analog.com/static/imported-files/data_sheets/AD5570.pdf; ComponentLink3Description: Package Specification; ComponentLink3URL: http://www.analog.com/static/imported-files/packages/31572257652246RS_16.pdf; ComponentLink4Description: Product URL; ComponentLink4URL: http://www.analog.com/en/digital-to-analog-converters/da-converters/ad5570/products/product.html
footprint RS-16_N (SOP, 16-Leads, Body 6.2x5.3mm, Pitch 0.65mm, IPC Medium Density)
footprint RS-16_L (SOP, 16-Leads, Body 6.2x5.3mm, Pitch 0.65mm, IPC High Density)
footprint RS-16_M (SOP, 16-Leads, Body 6.2x5.3mm, Pitch 0.65mm, IPC Low Density)
pins: 1 VSS (power) "Negative Analog Supply Voltage. -12 V +/- 5% to -15 V +/- 10% for specified performance", 2 VDD (power) "Positive Analog Supply Voltage. 12 V +/- 5% to 15 V +/- 10% for specified performance", 3 ~{CLR} (in) "Level Sensitive, Active Low Input. A falling edge of C\L\R\ resets VOUT to AGND. The contents of the registers are untouched.", 4 ~{LDAC} (in) "Active Low Control Input. Transfers the contents of the input register to the DAC register. L\D\A\C\ can be tied permanently low, enabling the outputs to be updated on the rising edge of S\Y\N\C\.", 5 ~{SYNC} (in) "Active Low Control Input. This is the frame synchronization signal for the data. When S\Y\N\C\ goes low, it powers on the SCLK and SDIN buffers and enables the input shift register. Data is transferred in on the falling (See Datasheet)", 6 SCLK (in) "Serial Clock Input. Data is clocked into the input register on the falling edge of the serial clock input. Data can be transferred at rates of up to 8 MHz.", 7 SDIN (in) "Serial Data Input. Data is clocked into the 16-bit register on the falling edge of the serial clock input.", 8 SDO (oc) "Serial Data Output. Can be used for daisy-chaining a number of devices together or for reading back the data in the shift register for diagnostic purposes. This is an open-drain output; it must be pulled to logic high with (See Datasheet)", 9 DGND (power) "Digital Ground. Ground reference for all digital circuitry.", 10 ~{PD} (in) "Active Low Control Input. Allows the DAC to be put into a power-down state.", 11 AGND (power) "Analog Ground. Ground reference for all analog circuitry.", 12 AGNDS (power) "Analog Ground Sense. This is normally tied to AGND.", 13 VOUT (out) "Analog Output Voltage.", 14 REFGND (power) "Reference Ground. Tie this pin to 0 V.", 15 REFIN (in) "Voltage Reference Input. This is internally buffered before being applied to the DAC. For bipolar +/-10 V output range, REFIN is 5 V.", 16 REFGND (power) "Reference Ground. Tie this pin to 0 V."

## AD5570BRS-REEL
designator U?
Single 16-Bit True Accuracy Digital-to-Analog Converter with Serial Interface, + / -12 V , + / -15 V, -40 to +85 degC, RS-16, Reel; Generic Part Number: AD5570; Manufacturer: Analog Devices; PartNumber: AD5570BRS-REEL; # DAC Outputs: 1; Max V+: 16.5V; Op Pwr Diss: 150mW; Resolution (Bits): 16; Settling Time: 12µs; Single Supply: No; DatasheetVersion: Rev.C; PackageVersion: Mar-2005; PackageReference: RS-16; PackageDescription: 16-Lead Shrink Small Outline Package [SSOP]; Supplier 1: Digi-Key; Supplier Part Number 1: AD5570BRS-REEL-ND; Supplier 2: Mouser; Supplier Part Number 2: 584-AD5570BRS-R; Packing: Reel; RoHS: N; Mounting Technology: Surface Mount; Code_JEDEC: MO-150-AC; ComponentLink1Description: Manufacturer URL; ComponentLink1URL: http://www.analog.com/en/index.html; ComponentLink2Description: Datasheet; ComponentLink2URL: http://www.analog.com/static/imported-files/data_sheets/AD5570.pdf; ComponentLink3Description: Package Specification; ComponentLink3URL: http://www.analog.com/static/imported-files/packages/31572257652246RS_16.pdf; ComponentLink4Description: Product URL; ComponentLink4URL: http://www.analog.com/en/digital-to-analog-converters/da-converters/ad5570/products/product.html
footprint RS-16_N (SOP, 16-Leads, Body 6.2x5.3mm, Pitch 0.65mm, IPC Medium Density)
footprint RS-16_L (SOP, 16-Leads, Body 6.2x5.3mm, Pitch 0.65mm, IPC High Density)
footprint RS-16_M (SOP, 16-Leads, Body 6.2x5.3mm, Pitch 0.65mm, IPC Low Density)
pins: 1 VSS (power) "Negative Analog Supply Voltage. -12 V +/- 5% to -15 V +/- 10% for specified performance", 2 VDD (power) "Positive Analog Supply Voltage. 12 V +/- 5% to 15 V +/- 10% for specified performance", 3 ~{CLR} (in) "Level Sensitive, Active Low Input. A falling edge of C\L\R\ resets VOUT to AGND. The contents of the registers are untouched.", 4 ~{LDAC} (in) "Active Low Control Input. Transfers the contents of the input register to the DAC register. L\D\A\C\ can be tied permanently low, enabling the outputs to be updated on the rising edge of S\Y\N\C\.", 5 ~{SYNC} (in) "Active Low Control Input. This is the frame synchronization signal for the data. When S\Y\N\C\ goes low, it powers on the SCLK and SDIN buffers and enables the input shift register. Data is transferred in on the falling (See Datasheet)", 6 SCLK (in) "Serial Clock Input. Data is clocked into the input register on the falling edge of the serial clock input. Data can be transferred at rates of up to 8 MHz.", 7 SDIN (in) "Serial Data Input. Data is clocked into the 16-bit register on the falling edge of the serial clock input.", 8 SDO (oc) "Serial Data Output. Can be used for daisy-chaining a number of devices together or for reading back the data in the shift register for diagnostic purposes. This is an open-drain output; it must be pulled to logic high with (See Datasheet)", 9 DGND (power) "Digital Ground. Ground reference for all digital circuitry.", 10 ~{PD} (in) "Active Low Control Input. Allows the DAC to be put into a power-down state.", 11 AGND (power) "Analog Ground. Ground reference for all analog circuitry.", 12 AGNDS (power) "Analog Ground Sense. This is normally tied to AGND.", 13 VOUT (out) "Analog Output Voltage.", 14 REFGND (power) "Reference Ground. Tie this pin to 0 V.", 15 REFIN (in) "Voltage Reference Input. This is internally buffered before being applied to the DAC. For bipolar +/-10 V output range, REFIN is 5 V.", 16 REFGND (power) "Reference Ground. Tie this pin to 0 V."

## AD5570BRS-REEL7
designator U?
Single 16-Bit True Accuracy Digital-to-Analog Converter with Serial Interface, + / -12 V , + / -15 V, -40 to +85 degC, RS-16, Reel; Generic Part Number: AD5570; Manufacturer: Analog Devices; PartNumber: AD5570BRS-REEL7; # DAC Outputs: 1; Max V+: 16.5V; Op Pwr Diss: 150mW; Resolution (Bits): 16; Settling Time: 12µs; Single Supply: No; DatasheetVersion: Rev.C; PackageVersion: Mar-2005; PackageReference: RS-16; PackageDescription: 16-Lead Shrink Small Outline Package [SSOP]; Supplier 1: Digi-Key; Supplier Part Number 1: AD5570BRS-REEL7-ND; Supplier 2: Mouser; Supplier Part Number 2: 584-AD5570BRS-R7; Packing: Reel; RoHS: N; Mounting Technology: Surface Mount; Code_JEDEC: MO-150-AC; ComponentLink1Description: Manufacturer URL; ComponentLink1URL: http://www.analog.com/en/index.html; ComponentLink2Description: Datasheet; ComponentLink2URL: http://www.analog.com/static/imported-files/data_sheets/AD5570.pdf; ComponentLink3Description: Package Specification; ComponentLink3URL: http://www.analog.com/static/imported-files/packages/31572257652246RS_16.pdf; ComponentLink4Description: Product URL; ComponentLink4URL: http://www.analog.com/en/digital-to-analog-converters/da-converters/ad5570/products/product.html
footprint RS-16_N (SOP, 16-Leads, Body 6.2x5.3mm, Pitch 0.65mm, IPC Medium Density)
footprint RS-16_L (SOP, 16-Leads, Body 6.2x5.3mm, Pitch 0.65mm, IPC High Density)
footprint RS-16_M (SOP, 16-Leads, Body 6.2x5.3mm, Pitch 0.65mm, IPC Low Density)
pins: 1 VSS (power) "Negative Analog Supply Voltage. -12 V +/- 5% to -15 V +/- 10% for specified performance", 2 VDD (power) "Positive Analog Supply Voltage. 12 V +/- 5% to 15 V +/- 10% for specified performance", 3 ~{CLR} (in) "Level Sensitive, Active Low Input. A falling edge of C\L\R\ resets VOUT to AGND. The contents of the registers are untouched.", 4 ~{LDAC} (in) "Active Low Control Input. Transfers the contents of the input register to the DAC register. L\D\A\C\ can be tied permanently low, enabling the outputs to be updated on the rising edge of S\Y\N\C\.", 5 ~{SYNC} (in) "Active Low Control Input. This is the frame synchronization signal for the data. When S\Y\N\C\ goes low, it powers on the SCLK and SDIN buffers and enables the input shift register. Data is transferred in on the falling (See Datasheet)", 6 SCLK (in) "Serial Clock Input. Data is clocked into the input register on the falling edge of the serial clock input. Data can be transferred at rates of up to 8 MHz.", 7 SDIN (in) "Serial Data Input. Data is clocked into the 16-bit register on the falling edge of the serial clock input.", 8 SDO (oc) "Serial Data Output. Can be used for daisy-chaining a number of devices together or for reading back the data in the shift register for diagnostic purposes. This is an open-drain output; it must be pulled to logic high with (See Datasheet)", 9 DGND (power) "Digital Ground. Ground reference for all digital circuitry.", 10 ~{PD} (in) "Active Low Control Input. Allows the DAC to be put into a power-down state.", 11 AGND (power) "Analog Ground. Ground reference for all analog circuitry.", 12 AGNDS (power) "Analog Ground Sense. This is normally tied to AGND.", 13 VOUT (out) "Analog Output Voltage.", 14 REFGND (power) "Reference Ground. Tie this pin to 0 V.", 15 REFIN (in) "Voltage Reference Input. This is internally buffered before being applied to the DAC. For bipolar +/-10 V output range, REFIN is 5 V.", 16 REFGND (power) "Reference Ground. Tie this pin to 0 V."

## AD5570BRSZ
designator U?
Single 16-Bit True Accuracy Digital-to-Analog Converter with Serial Interface, + / -12 V , + / -15 V, -40 to +85 degC, RS-16, Pb-Free, Tube; Generic Part Number: AD5570; Manufacturer: Analog Devices; PartNumber: AD5570BRSZ; # DAC Outputs: 1; Max V+: 16.5V; Op Pwr Diss: 150mW; Resolution (Bits): 16; Settling Time: 12µs; Single Supply: No; DatasheetVersion: Rev.C; PackageVersion: Mar-2005; PackageReference: RS-16; PackageDescription: 16-Lead Shrink Small Outline Package [SSOP]; Supplier 1: Digi-Key; Supplier Part Number 1: AD5570BRSZ-ND; Supplier 2: Mouser; Supplier Part Number 2: 584-AD5570BRSZ; Packing: Tube; RoHS: Y; Mounting Technology: Surface Mount; Code_JEDEC: MO-150-AC; ComponentLink1Description: Manufacturer URL; ComponentLink1URL: http://www.analog.com/en/index.html; ComponentLink2Description: Datasheet; ComponentLink2URL: http://www.analog.com/static/imported-files/data_sheets/AD5570.pdf; ComponentLink3Description: Package Specification; ComponentLink3URL: http://www.analog.com/static/imported-files/packages/31572257652246RS_16.pdf; ComponentLink4Description: Product URL; ComponentLink4URL: http://www.analog.com/en/digital-to-analog-converters/da-converters/ad5570/products/product.html
footprint RS-16_N (SOP, 16-Leads, Body 6.2x5.3mm, Pitch 0.65mm, IPC Medium Density)
footprint RS-16_L (SOP, 16-Leads, Body 6.2x5.3mm, Pitch 0.65mm, IPC High Density)
footprint RS-16_M (SOP, 16-Leads, Body 6.2x5.3mm, Pitch 0.65mm, IPC Low Density)
pins: 1 VSS (power) "Negative Analog Supply Voltage. -12 V +/- 5% to -15 V +/- 10% for specified performance", 2 VDD (power) "Positive Analog Supply Voltage. 12 V +/- 5% to 15 V +/- 10% for specified performance", 3 ~{CLR} (in) "Level Sensitive, Active Low Input. A falling edge of C\L\R\ resets VOUT to AGND. The contents of the registers are untouched.", 4 ~{LDAC} (in) "Active Low Control Input. Transfers the contents of the input register to the DAC register. L\D\A\C\ can be tied permanently low, enabling the outputs to be updated on the rising edge of S\Y\N\C\.", 5 ~{SYNC} (in) "Active Low Control Input. This is the frame synchronization signal for the data. When S\Y\N\C\ goes low, it powers on the SCLK and SDIN buffers and enables the input shift register. Data is transferred in on the falling (See Datasheet)", 6 SCLK (in) "Serial Clock Input. Data is clocked into the input register on the falling edge of the serial clock input. Data can be transferred at rates of up to 8 MHz.", 7 SDIN (in) "Serial Data Input. Data is clocked into the 16-bit register on the falling edge of the serial clock input.", 8 SDO (oc) "Serial Data Output. Can be used for daisy-chaining a number of devices together or for reading back the data in the shift register for diagnostic purposes. This is an open-drain output; it must be pulled to logic high with (See Datasheet)", 9 DGND (power) "Digital Ground. Ground reference for all digital circuitry.", 10 ~{PD} (in) "Active Low Control Input. Allows the DAC to be put into a power-down state.", 11 AGND (power) "Analog Ground. Ground reference for all analog circuitry.", 12 AGNDS (power) "Analog Ground Sense. This is normally tied to AGND.", 13 VOUT (out) "Analog Output Voltage.", 14 REFGND (power) "Reference Ground. Tie this pin to 0 V.", 15 REFIN (in) "Voltage Reference Input. This is internally buffered before being applied to the DAC. For bipolar +/-10 V output range, REFIN is 5 V.", 16 REFGND (power) "Reference Ground. Tie this pin to 0 V."

## AD5570BRSZ-REEL
designator U?
Single 16-Bit True Accuracy Digital-to-Analog Converter with Serial Interface, + / -12 V , + / -15 V, -40 to +85 degC, RS-16, Pb-Free, Reel; Generic Part Number: AD5570; Manufacturer: Analog Devices; PartNumber: AD5570BRSZ-REEL; # DAC Outputs: 1; Max V+: 16.5V; Op Pwr Diss: 150mW; Resolution (Bits): 16; Settling Time: 12µs; Single Supply: No; DatasheetVersion: Rev.C; PackageVersion: Mar-2005; PackageReference: RS-16; PackageDescription: 16-Lead Shrink Small Outline Package [SSOP]; Supplier 1: Digi-Key; Supplier Part Number 1: AD5570BRSZ-REEL-ND; Packing: Reel; RoHS: Y; Mounting Technology: Surface Mount; Code_JEDEC: MO-150-AC; ComponentLink1Description: Manufacturer URL; ComponentLink1URL: http://www.analog.com/en/index.html; ComponentLink2Description: Datasheet; ComponentLink2URL: http://www.analog.com/static/imported-files/data_sheets/AD5570.pdf; ComponentLink3Description: Package Specification; ComponentLink3URL: http://www.analog.com/static/imported-files/packages/31572257652246RS_16.pdf; ComponentLink4Description: Product URL; ComponentLink4URL: http://www.analog.com/en/digital-to-analog-converters/da-converters/ad5570/products/product.html
footprint RS-16_N (SOP, 16-Leads, Body 6.2x5.3mm, Pitch 0.65mm, IPC Medium Density)
footprint RS-16_L (SOP, 16-Leads, Body 6.2x5.3mm, Pitch 0.65mm, IPC High Density)
footprint RS-16_M (SOP, 16-Leads, Body 6.2x5.3mm, Pitch 0.65mm, IPC Low Density)
pins: 1 VSS (power) "Negative Analog Supply Voltage. -12 V +/- 5% to -15 V +/- 10% for specified performance", 2 VDD (power) "Positive Analog Supply Voltage. 12 V +/- 5% to 15 V +/- 10% for specified performance", 3 ~{CLR} (in) "Level Sensitive, Active Low Input. A falling edge of C\L\R\ resets VOUT to AGND. The contents of the registers are untouched.", 4 ~{LDAC} (in) "Active Low Control Input. Transfers the contents of the input register to the DAC register. L\D\A\C\ can be tied permanently low, enabling the outputs to be updated on the rising edge of S\Y\N\C\.", 5 ~{SYNC} (in) "Active Low Control Input. This is the frame synchronization signal for the data. When S\Y\N\C\ goes low, it powers on the SCLK and SDIN buffers and enables the input shift register. Data is transferred in on the falling (See Datasheet)", 6 SCLK (in) "Serial Clock Input. Data is clocked into the input register on the falling edge of the serial clock input. Data can be transferred at rates of up to 8 MHz.", 7 SDIN (in) "Serial Data Input. Data is clocked into the 16-bit register on the falling edge of the serial clock input.", 8 SDO (oc) "Serial Data Output. Can be used for daisy-chaining a number of devices together or for reading back the data in the shift register for diagnostic purposes. This is an open-drain output; it must be pulled to logic high with (See Datasheet)", 9 DGND (power) "Digital Ground. Ground reference for all digital circuitry.", 10 ~{PD} (in) "Active Low Control Input. Allows the DAC to be put into a power-down state.", 11 AGND (power) "Analog Ground. Ground reference for all analog circuitry.", 12 AGNDS (power) "Analog Ground Sense. This is normally tied to AGND.", 13 VOUT (out) "Analog Output Voltage.", 14 REFGND (power) "Reference Ground. Tie this pin to 0 V.", 15 REFIN (in) "Voltage Reference Input. This is internally buffered before being applied to the DAC. For bipolar +/-10 V output range, REFIN is 5 V.", 16 REFGND (power) "Reference Ground. Tie this pin to 0 V."